# Altium schematic symbol library LTST-C230KRKT.SchLib: 1 symbol
Pins are listed as number, name and electrical type; pins without a type are passive.

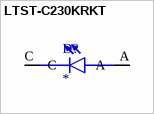
[diagram p0: symbol LTST-C230KRKT]

## LTST-C230KRKT
designator D?
LED SMT RED CLR 1206 TAPE; MP: LTST-C230KRKT; MF: {'manufacturer': u'Lite-On Electronics'}; Package: None; Value: *; Availability: Unavailable; Price: None
footprint LEDC3216X110
pins: A, C